# Altium schematic symbol library dungvh03-CERN_Logic.SchLib: 486 symbols (part 19 of 54)
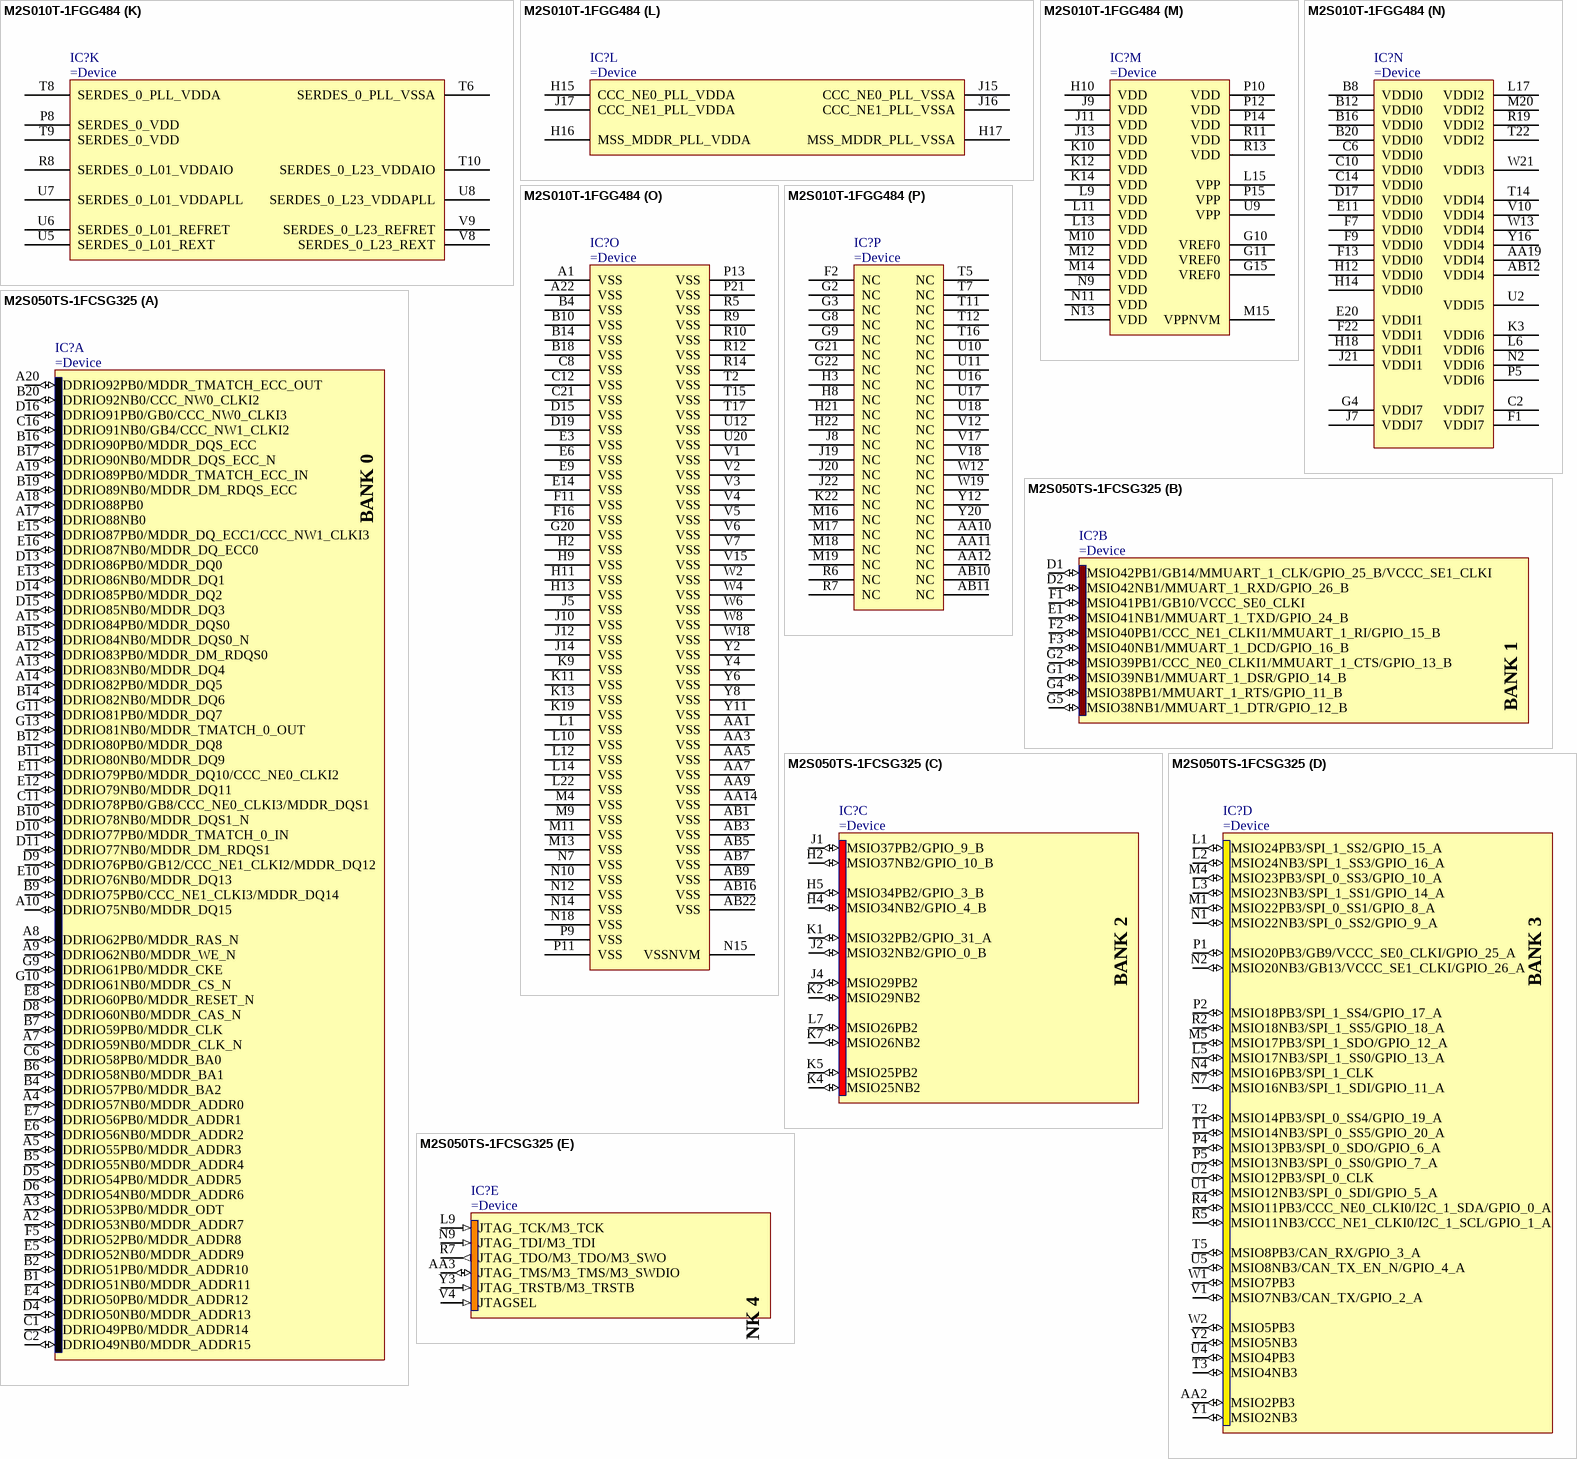
[diagram p279: symbols M2S010T-1FGG484 to M2S050TS-1FCSG325]

## M2S010T-1FGG484 (continued)
part P pins: AA10 NC "No connect. This pin is not connected to circuitry within the device. This pin can be driven to any voltage or can be left floating with no effect on the operation of the device.", AA11 NC "No connect. This pin is not connected to circuitry within the device. This pin can be driven to any voltage or can be left floating with no effect on the operation of the device.", AA12 NC "No connect. This pin is not connected to circuitry within the device. This pin can be driven to any voltage or can be left floating with no effect on the operation of the device.", AB10 NC "No connect. This pin is not connected to circuitry within the device. This pin can be driven to any voltage or can be left floating with no effect on the operation of the device.", AB11 NC "No connect. This pin is not connected to circuitry within the device. This pin can be driven to any voltage or can be left floating with no effect on the operation of the device.", F2 NC "No connect. This pin is not connected to circuitry within the device. This pin can be driven to any voltage or can be left floating with no effect on the operation of the device.", G2 NC "No connect. This pin is not connected to circuitry within the device. This pin can be driven to any voltage or can be left floating with no effect on the operation of the device.", G3 NC "No connect. This pin is not connected to circuitry within the device. This pin can be driven to any voltage or can be left floating with no effect on the operation of the device.", G8 NC "No connect. This pin is not connected to circuitry within the device. This pin can be driven to any voltage or can be left floating with no effect on the operation of the device.", G9 NC "No connect. This pin is not connected to circuitry within the device. This pin can be driven to any voltage or can be left floating with no effect on the operation of the device.", G21 NC "No connect. This pin is not connected to circuitry within the device. This pin can be driven to any voltage or can be left floating with no effect on the operation of the device.", G22 NC "No connect. This pin is not connected to circuitry within the device. This pin can be driven to any voltage or can be left floating with no effect on the operation of the device.", H3 NC "No connect. This pin is not connected to circuitry within the device. This pin can be driven to any voltage or can be left floating with no effect on the operation of the device.", H8 NC "No connect. This pin is not connected to circuitry within the device. This pin can be driven to any voltage or can be left floating with no effect on the operation of the device.", H21 NC "No connect. This pin is not connected to circuitry within the device. This pin can be driven to any voltage or can be left floating with no effect on the operation of the device.", H22 NC "No connect. This pin is not connected to circuitry within the device. This pin can be driven to any voltage or can be left floating with no effect on the operation of the device.", J8 NC "No connect. This pin is not connected to circuitry within the device. This pin can be driven to any voltage or can be left floating with no effect on the operation of the device.", J19 NC "No connect. This pin is not connected to circuitry within the device. This pin can be driven to any voltage or can be left floating with no effect on the operation of the device.", J20 NC "No connect. This pin is not connected to circuitry within the device. This pin can be driven to any voltage or can be left floating with no effect on the operation of the device.", J22 NC "No connect. This pin is not connected to circuitry within the device. This pin can be driven to any voltage or can be left floating with no effect on the operation of the device.", K22 NC "No connect. This pin is not connected to circuitry within the device. This pin can be driven to any voltage or can be left floating with no effect on the operation of the device.", M16 NC "No connect. This pin is not connected to circuitry within the device. This pin can be driven to any voltage or can be left floating with no effect on the operation of the device.", M17 NC "No connect. This pin is not connected to circuitry within the device. This pin can be driven to any voltage or can be left floating with no effect on the operation of the device.", M18 NC "No connect. This pin is not connected to circuitry within the device. This pin can be driven to any voltage or can be left floating with no effect on the operation of the device.", M19 NC "No connect. This pin is not connected to circuitry within the device. This pin can be driven to any voltage or can be left floating with no effect on the operation of the device.", R6 NC "No connect. This pin is not connected to circuitry within the device. This pin can be driven to any voltage or can be left floating with no effect on the operation of the device.", R7 NC "No connect. This pin is not connected to circuitry within the device. This pin can be driven to any voltage or can be left floating with no effect on the operation of the device.", T5 NC "No connect. This pin is not connected to circuitry within the device. This pin can be driven to any voltage or can be left floating with no effect on the operation of the device.", T7 NC "No connect. This pin is not connected to circuitry within the device. This pin can be driven to any voltage or can be left floating with no effect on the operation of the device.", T11 NC "No connect. This pin is not connected to circuitry within the device. This pin can be driven to any voltage or can be left floating with no effect on the operation of the device.", T12 NC "No connect. This pin is not connected to circuitry within the device. This pin can be driven to any voltage or can be left floating with no effect on the operation of the device.", T16 NC "No connect. This pin is not connected to circuitry within the device. This pin can be driven to any voltage or can be left floating with no effect on the operation of the device.", U10 NC "No connect. This pin is not connected to circuitry within the device. This pin can be driven to any voltage or can be left floating with no effect on the operation of the device.", U11 NC "No connect. This pin is not connected to circuitry within the device. This pin can be driven to any voltage or can be left floating with no effect on the operation of the device.", U16 NC "No connect. This pin is not connected to circuitry within the device. This pin can be driven to any voltage or can be left floating with no effect on the operation of the device.", U17 NC "No connect. This pin is not connected to circuitry within the device. This pin can be driven to any voltage or can be left floating with no effect on the operation of the device.", U18 NC "No connect. This pin is not connected to circuitry within the device. This pin can be driven to any voltage or can be left floating with no effect on the operation of the device.", V12 NC "No connect. This pin is not connected to circuitry within the device. This pin can be driven to any voltage or can be left floating with no effect on the operation of the device.", V17 NC "No connect. This pin is not connected to circuitry within the device. This pin can be driven to any voltage or can be left floating with no effect on the operation of the device.", V18 NC "No connect. This pin is not connected to circuitry within the device. This pin can be driven to any voltage or can be left floating with no effect on the operation of the device.", W12 NC "No connect. This pin is not connected to circuitry within the device. This pin can be driven to any voltage or can be left floating with no effect on the operation of the device.", W19 NC "No connect. This pin is not connected to circuitry within the device. This pin can be driven to any voltage or can be left floating with no effect on the operation of the device.", Y12 NC "No connect. This pin is not connected to circuitry within the device. This pin can be driven to any voltage or can be left floating with no effect on the operation of the device.", Y20 NC "No connect. This pin is not connected to circuitry within the device. This pin can be driven to any voltage or can be left floating with no effect on the operation of the device."
part A text: BANK 0
part B text: BANK 1
part C text: BANK 2
part D text: BANK 4
part E text: BANK 5
part F text: BANK 6
part G text: BANK 7

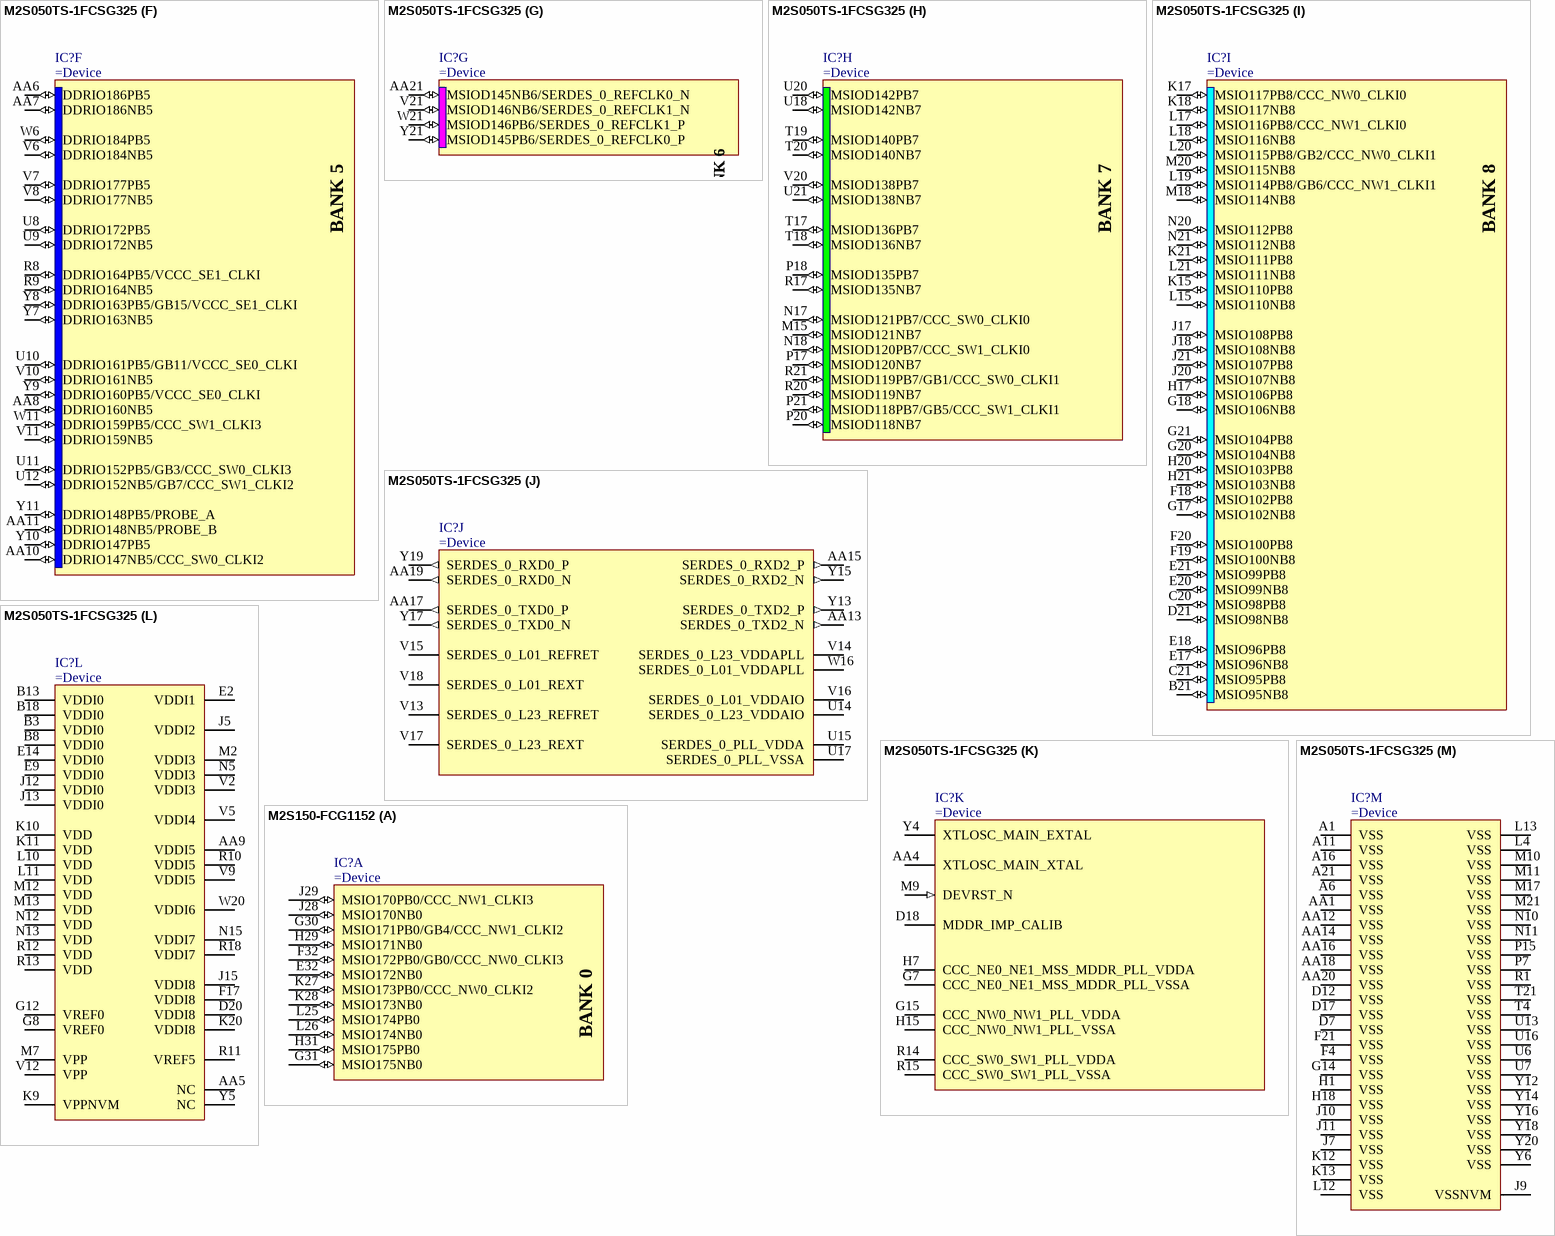
[diagram p91: symbols M2S050TS-1FCSG325 to M2S150-FCG1152]

## M2S050TS-1FCSG325
designator IC?
SmartFusion 2 SoC FPGA, ARM Cortex-M3, 200 User I/O, -40 to 85 degC, 325-Ball BGA, RoHS
part A pins: A2 DDRIO53NB0/MDDR_ADDR7 (io), A3 DDRIO53PB0/MDDR_ODT (io), A4 DDRIO57NB0/MDDR_ADDR0 (io), A5 DDRIO55PB0/MDDR_ADDR3 (io), A7 DDRIO59NB0/MDDR_CLK_N (io), A8 DDRIO62PB0/MDDR_RAS_N (io), A9 DDRIO62NB0/MDDR_WE_N (io), A10 DDRIO75NB0/MDDR_DQ15 (io), A12 DDRIO83PB0/MDDR_DM_RDQS0 (io), A13 DDRIO83NB0/MDDR_DQ4 (io), A14 DDRIO82PB0/MDDR_DQ5 (io), A15 DDRIO84PB0/MDDR_DQS0 (io), A17 DDRIO88NB0 (io), A18 DDRIO88PB0 (io), A19 DDRIO89PB0/MDDR_TMATCH_ECC_IN (io), A20 DDRIO92PB0/MDDR_TMATCH_ECC_OUT (io), B1 DDRIO51NB0/MDDR_ADDR11 (io), B2 DDRIO51PB0/MDDR_ADDR10 (io), B4 DDRIO57PB0/MDDR_BA2 (io), B5 DDRIO55NB0/MDDR_ADDR4 (io), B6 DDRIO58NB0/MDDR_BA1 (io), B7 DDRIO59PB0/MDDR_CLK (io), B9 DDRIO75PB0/CCC_NE1_CLKI3/MDDR_DQ14 (io), B10 DDRIO78NB0/MDDR_DQS1_N (io), B11 DDRIO80NB0/MDDR_DQ9 (io), B12 DDRIO80PB0/MDDR_DQ8 (io), B14 DDRIO82NB0/MDDR_DQ6 (io), B15 DDRIO84NB0/MDDR_DQS0_N (io), B16 DDRIO90PB0/MDDR_DQS_ECC (io), B17 DDRIO90NB0/MDDR_DQS_ECC_N (io), B19 DDRIO89NB0/MDDR_DM_RDQS_ECC (io), B20 DDRIO92NB0/CCC_NW0_CLKI2 (io), C1 DDRIO49PB0/MDDR_ADDR14 (io), C2 DDRIO49NB0/MDDR_ADDR15 (io), C6 DDRIO58PB0/MDDR_BA0 (io), C11 DDRIO78PB0/GB8/CCC_NE0_CLKI3/MDDR_DQS1 (io), C16 DDRIO91NB0/GB4/CCC_NW1_CLKI2 (io), D4 DDRIO50NB0/MDDR_ADDR13 (io), D5 DDRIO54PB0/MDDR_ADDR5 (io), D6 DDRIO54NB0/MDDR_ADDR6 (io), D8 DDRIO60NB0/MDDR_CAS_N (io), D9 DDRIO76PB0/GB12/CCC_NE1_CLKI2/MDDR_DQ12 (io), D10 DDRIO77PB0/MDDR_TMATCH_0_IN (io), D11 DDRIO77NB0/MDDR_DM_RDQS1 (io), D13 DDRIO86PB0/MDDR_DQ0 (io), D14 DDRIO85PB0/MDDR_DQ2 (io), D15 DDRIO85NB0/MDDR_DQ3 (io), D16 DDRIO91PB0/GB0/CCC_NW0_CLKI3 (io), E4 DDRIO50PB0/MDDR_ADDR12 (io), E5 DDRIO52NB0/MDDR_ADDR9 (io), E6 DDRIO56NB0/MDDR_ADDR2 (io), E7 DDRIO56PB0/MDDR_ADDR1 (io), E8 DDRIO60PB0/MDDR_RESET_N (io), E10 DDRIO76NB0/MDDR_DQ13 (io), E11 DDRIO79PB0/MDDR_DQ10/CCC_NE0_CLKI2 (io), E12 DDRIO79NB0/MDDR_DQ11 (io), E13 DDRIO86NB0/MDDR_DQ1 (io), E15 DDRIO87PB0/MDDR_DQ_ECC1/CCC_NW1_CLKI3 (io), E16 DDRIO87NB0/MDDR_DQ_ECC0 (io), F5 DDRIO52PB0/MDDR_ADDR8 (io), G9 DDRIO61PB0/MDDR_CKE (io), G10 DDRIO61NB0/MDDR_CS_N (io), G11 DDRIO81PB0/MDDR_DQ7 (io), G13 DDRIO81NB0/MDDR_TMATCH_0_OUT (io)
part B pins: D1 MSIO42PB1/GB14/MMUART_1_CLK/GPIO_25_B/VCCC_SE1_CLKI (io), D2 MSIO42NB1/MMUART_1_RXD/GPIO_26_B (io), E1 MSIO41NB1/MMUART_1_TXD/GPIO_24_B (io), F1 MSIO41PB1/GB10/VCCC_SE0_CLKI (io), F2 MSIO40PB1/CCC_NE1_CLKI1/MMUART_1_RI/GPIO_15_B (io), F3 MSIO40NB1/MMUART_1_DCD/GPIO_16_B (io), G1 MSIO39NB1/MMUART_1_DSR/GPIO_14_B (io), G2 MSIO39PB1/CCC_NE0_CLKI1/MMUART_1_CTS/GPIO_13_B (io), G4 MSIO38PB1/MMUART_1_RTS/GPIO_11_B (io), G5 MSIO38NB1/MMUART_1_DTR/GPIO_12_B (io)
part C pins: H2 MSIO37NB2/GPIO_10_B (io), H4 MSIO34NB2/GPIO_4_B (io), H5 MSIO34PB2/GPIO_3_B (io), J1 MSIO37PB2/GPIO_9_B (io), J2 MSIO32NB2/GPIO_0_B (io), J4 MSIO29PB2 (io), K1 MSIO32PB2/GPIO_31_A (io), K2 MSIO29NB2 (io), K4 MSIO25NB2 (io), K5 MSIO25PB2 (io), K7 MSIO26NB2 (io), L7 MSIO26PB2 (io)
part D pins: AA2 MSIO2PB3 (io), L1 MSIO24PB3/SPI_1_SS2/GPIO_15_A (io), L2 MSIO24NB3/SPI_1_SS3/GPIO_16_A (io), L3 MSIO23NB3/SPI_1_SS1/GPIO_14_A (io), L5 MSIO17NB3/SPI_1_SS0/GPIO_13_A (io), M1 MSIO22PB3/SPI_0_SS1/GPIO_8_A (io), M4 MSIO23PB3/SPI_0_SS3/GPIO_10_A (io), M5 MSIO17PB3/SPI_1_SDO/GPIO_12_A (io), N1 MSIO22NB3/SPI_0_SS2/GPIO_9_A (io), N2 MSIO20NB3/GB13/VCCC_SE1_CLKI/GPIO_26_A (io), N4 MSIO16PB3/SPI_1_CLK (io), N7 MSIO16NB3/SPI_1_SDI/GPIO_11_A (io), P1 MSIO20PB3/GB9/VCCC_SE0_CLKI/GPIO_25_A (io), P2 MSIO18PB3/SPI_1_SS4/GPIO_17_A (io), P4 MSIO13PB3/SPI_0_SDO/GPIO_6_A (io), P5 MSIO13NB3/SPI_0_SS0/GPIO_7_A (io), R2 MSIO18NB3/SPI_1_SS5/GPIO_18_A (io), R4 MSIO11PB3/CCC_NE0_CLKI0/I2C_1_SDA/GPIO_0_A (io), R5 MSIO11NB3/CCC_NE1_CLKI0/I2C_1_SCL/GPIO_1_A (io), T1 MSIO14NB3/SPI_0_SS5/GPIO_20_A (io), T2 MSIO14PB3/SPI_0_SS4/GPIO_19_A (io), T3 MSIO4NB3 (io), T5 MSIO8PB3/CAN_RX/GPIO_3_A (io), U1 MSIO12NB3/SPI_0_SDI/GPIO_5_A (io), U2 MSIO12PB3/SPI_0_CLK (io), U4 MSIO4PB3 (io), U5 MSIO8NB3/CAN_TX_EN_N/GPIO_4_A (io), V1 MSIO7NB3/CAN_TX/GPIO_2_A (io), W1 MSIO7PB3 (io), W2 MSIO5PB3 (io), Y1 MSIO2NB3 (io), Y2 MSIO5NB3 (io)
part E pins: AA3 JTAG_TMS/M3_TMS/M3_SWDIO (io), L9 JTAG_TCK/M3_TCK (in), N9 JTAG_TDI/M3_TDI (in), R7 JTAG_TDO/M3_TDO/M3_SWO (out), V4 JTAGSEL (in), Y3 JTAG_TRSTB/M3_TRSTB (in)
part F pins: AA6 DDRIO186PB5 (io), AA7 DDRIO186NB5 (io), AA8 DDRIO160NB5 (io), AA10 DDRIO147NB5/CCC_SW0_CLKI2 (io), AA11 DDRIO148NB5/PROBE_B (io), R8 DDRIO164PB5/VCCC_SE1_CLKI (io), R9 DDRIO164NB5 (io), U8 DDRIO172PB5 (io), U9 DDRIO172NB5 (io), U10 DDRIO161PB5/GB11/VCCC_SE0_CLKI (io), U11 DDRIO152PB5/GB3/CCC_SW0_CLKI3 (io), U12 DDRIO152NB5/GB7/CCC_SW1_CLKI2 (io), V6 DDRIO184NB5 (io), V7 DDRIO177PB5 (io), V8 DDRIO177NB5 (io), V10 DDRIO161NB5 (io), V11 DDRIO159NB5 (io), W6 DDRIO184PB5 (io), W11 DDRIO159PB5/CCC_SW1_CLKI3 (io), Y7 DDRIO163NB5 (io), Y8 DDRIO163PB5/GB15/VCCC_SE1_CLKI (io), Y9 DDRIO160PB5/VCCC_SE0_CLKI (io), Y10 DDRIO147PB5 (io), Y11 DDRIO148PB5/PROBE_A (io)
part G pins: AA21 MSIOD145NB6/SERDES_0_REFCLK0_N (io), V21 MSIOD146NB6/SERDES_0_REFCLK1_N (io), W21 MSIOD146PB6/SERDES_0_REFCLK1_P (io), Y21 MSIOD145PB6/SERDES_0_REFCLK0_P (io)
part H pins: M15 MSIOD121NB7 (io), N17 MSIOD121PB7/CCC_SW0_CLKI0 (io), N18 MSIOD120PB7/CCC_SW1_CLKI0 (io), P17 MSIOD120NB7 (io), P18 MSIOD135PB7 (io), P20 MSIOD118NB7 (io), P21 MSIOD118PB7/GB5/CCC_SW1_CLKI1 (io), R17 MSIOD135NB7 (io), R20 MSIOD119NB7 (io), R21 MSIOD119PB7/GB1/CCC_SW0_CLKI1 (io), T17 MSIOD136PB7 (io), T18 MSIOD136NB7 (io), T19 MSIOD140PB7 (io), T20 MSIOD140NB7 (io), U18 MSIOD142NB7 (io), U20 MSIOD142PB7 (io), U21 MSIOD138NB7 (io), V20 MSIOD138PB7 (io)
part I pins: B21 MSIO95NB8 (io), C20 MSIO98PB8 (io), C21 MSIO95PB8 (io), D21 MSIO98NB8 (io), E17 MSIO96NB8 (io), E18 MSIO96PB8 (io), E20 MSIO99NB8 (io), E21 MSIO99PB8 (io), F18 MSIO102PB8 (io), F19 MSIO100NB8 (io), F20 MSIO100PB8 (io), G17 MSIO102NB8 (io), G18 MSIO106NB8 (io), G20 MSIO104NB8 (io), G21 MSIO104PB8 (io), H17 MSIO106PB8 (io), H20 MSIO103PB8 (io), H21 MSIO103NB8 (io), J17 MSIO108PB8 (io), J18 MSIO108NB8 (io), J20 MSIO107NB8 (io), J21 MSIO107PB8 (io), K15 MSIO110PB8 (io), K17 MSIO117PB8/CCC_NW0_CLKI0 (io), K18 MSIO117NB8 (io), K21 MSIO111PB8 (io), L15 MSIO110NB8 (io), L17 MSIO116PB8/CCC_NW1_CLKI0 (io), L18 MSIO116NB8 (io), L19 MSIO114PB8/GB6/CCC_NW1_CLKI1 (io), L20 MSIO115PB8/GB2/CCC_NW0_CLKI1 (io), L21 MSIO111NB8 (io), M18 MSIO114NB8 (io), M20 MSIO115NB8 (io), N20 MSIO112PB8 (io), N21 MSIO112NB8 (io)
part J pins: AA13 SERDES_0_TXD2_N (out), AA15 SERDES_0_RXD2_P (out), AA17 SERDES_0_TXD0_P (out), AA19 SERDES_0_RXD0_N (out), U14 SERDES_0_L23_VDDAIO (power), U15 SERDES_0_PLL_VDDA (power), U17 SERDES_0_PLL_VSSA (power), V13 SERDES_0_L23_REFRET, V14 SERDES_0_L23_VDDAPLL (power), V15 SERDES_0_L01_REFRET, V16 SERDES_0_L01_VDDAIO (power), V17 SERDES_0_L23_REXT, V18 SERDES_0_L01_REXT, W16 SERDES_0_L01_VDDAPLL (power), Y13 SERDES_0_TXD2_P (out), Y15 SERDES_0_RXD2_N (out), Y17 SERDES_0_TXD0_N (out), Y19 SERDES_0_RXD0_P (out)
part K pins: AA4 XTLOSC_MAIN_XTAL, D18 MDDR_IMP_CALIB, G7 CCC_NE0_NE1_MSS_MDDR_PLL_VSSA (power), G15 CCC_NW0_NW1_PLL_VDDA (power), H7 CCC_NE0_NE1_MSS_MDDR_PLL_VDDA (power), H15 CCC_NW0_NW1_PLL_VSSA (power), M9 DEVRST_N (in), R14 CCC_SW0_SW1_PLL_VDDA (power), R15 CCC_SW0_SW1_PLL_VSSA (power), Y4 XTLOSC_MAIN_EXTAL
part L pins: AA5 NC, AA9 VDDI5 (power), B3 VDDI0 (power), B8 VDDI0 (power), B13 VDDI0 (power), B18 VDDI0 (power), D20 VDDI8 (power), E2 VDDI1 (power), E9 VDDI0 (power), E14 VDDI0 (power), F17 VDDI8 (power), G8 VREF0 (power), G12 VREF0 (power), J5 VDDI2 (power), J12 VDDI0 (power), J13 VDDI0 (power), J15 VDDI8 (power), K9 VPPNVM (power), K10 VDD (power), K11 VDD (power), K20 VDDI8 (power), L10 VDD (power), L11 VDD (power), M2 VDDI3 (power), M7 VPP (power), M12 VDD (power), M13 VDD (power), N5 VDDI3 (power), N12 VDD (power), N13 VDD (power), N15 VDDI7 (power), R10 VDDI5 (power), R11 VREF5 (power), R12 VDD (power), R13 VDD (power), R18 VDDI7 (power), V2 VDDI3 (power), V5 VDDI4 (power), V9 VDDI5 (power), V12 VPP (power), W20 VDDI6 (power), Y5 NC
part M pins: A1 VSS (power), A6 VSS (power), A11 VSS (power), A16 VSS (power), A21 VSS (power), AA1 VSS (power), AA12 VSS (power), AA14 VSS (power), AA16 VSS (power), AA18 VSS (power), AA20 VSS (power), D7 VSS (power), D12 VSS (power), D17 VSS (power), F4 VSS (power), F21 VSS (power), G14 VSS (power), H1 VSS (power), H18 VSS (power), J7 VSS (power), J9 VSSNVM (power), J10 VSS (power), J11 VSS (power), K12 VSS (power), K13 VSS (power), L4 VSS (power), L12 VSS (power), L13 VSS (power), M10 VSS (power), M11 VSS (power), M17 VSS (power), M21 VSS (power), N10 VSS (power), N11 VSS (power), P7 VSS (power), P15 VSS (power), R1 VSS (power), T4 VSS (power), T21 VSS (power), U6 VSS (power), U7 VSS (power), U13 VSS (power), U16 VSS (power), Y6 VSS (power), Y12 VSS (power), Y14 VSS (power), Y16 VSS (power), Y18 VSS (power), Y20 VSS (power)
part A text: BANK 0
part B text: BANK 1
part C text: BANK 2
part D text: BANK 3
part E text: BANK 4
part F text: BANK 5
part G text: BANK 6
part H text: BANK 7
part I text: BANK 8

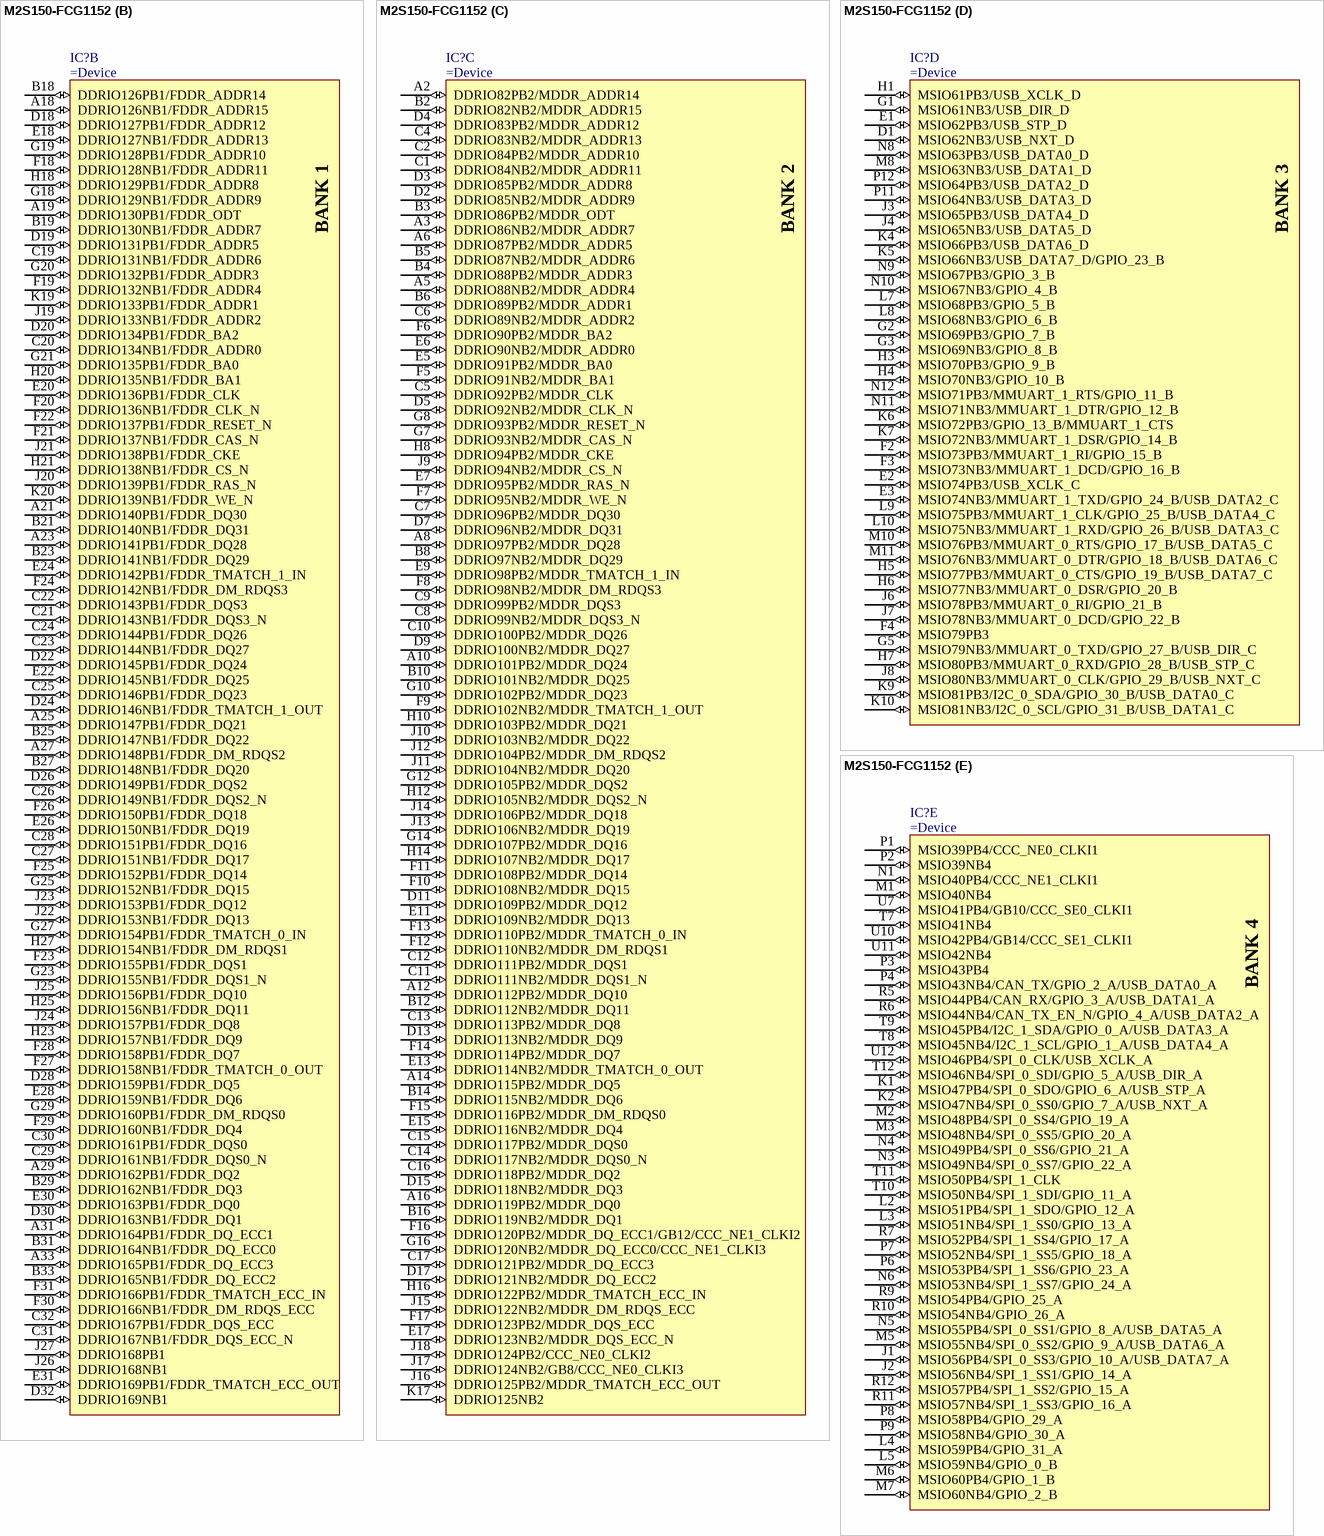
[diagram p92: symbol M2S150-FCG1152]

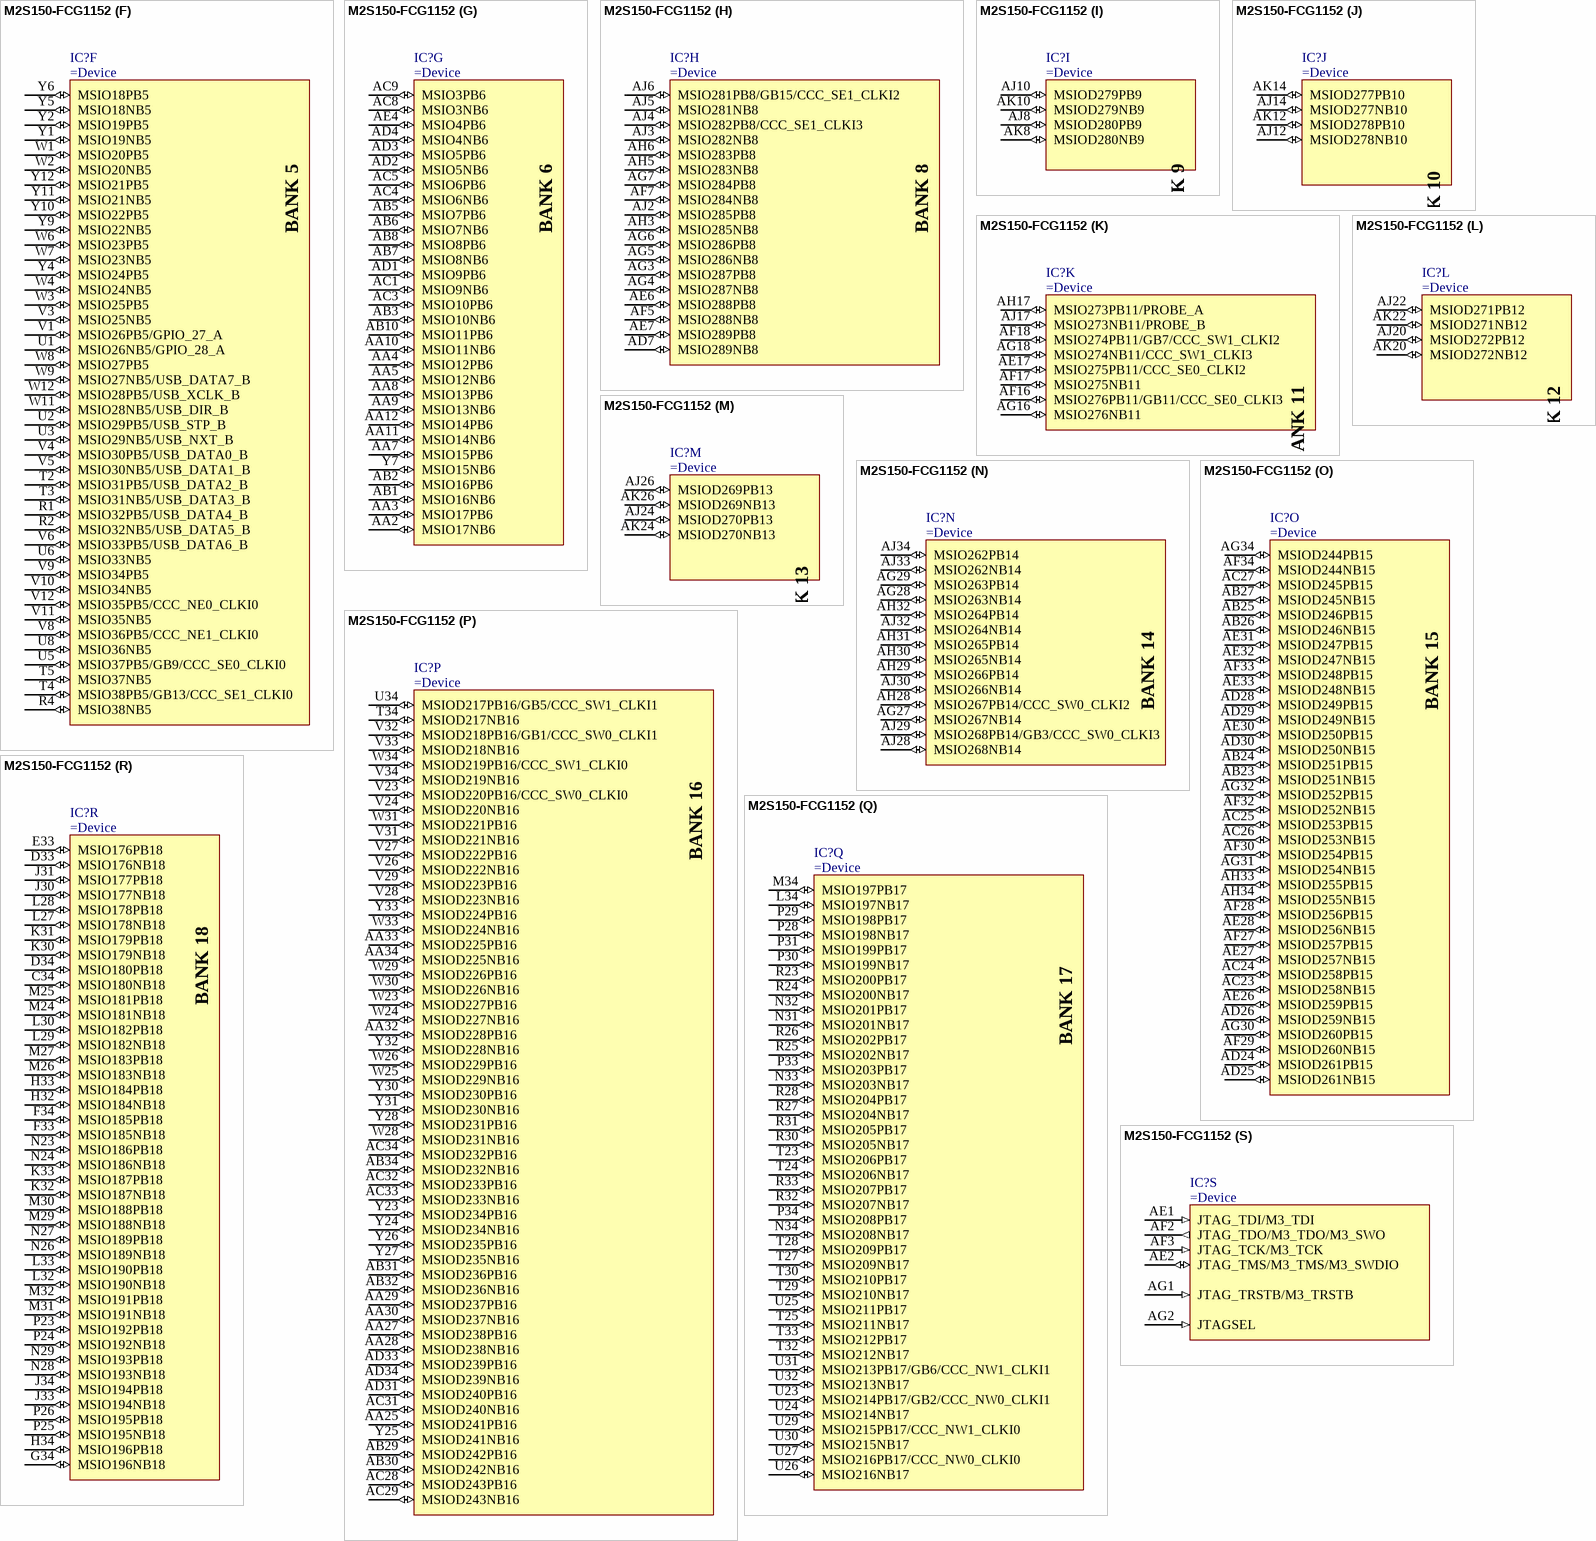
[diagram p93: symbol M2S150-FCG1152]

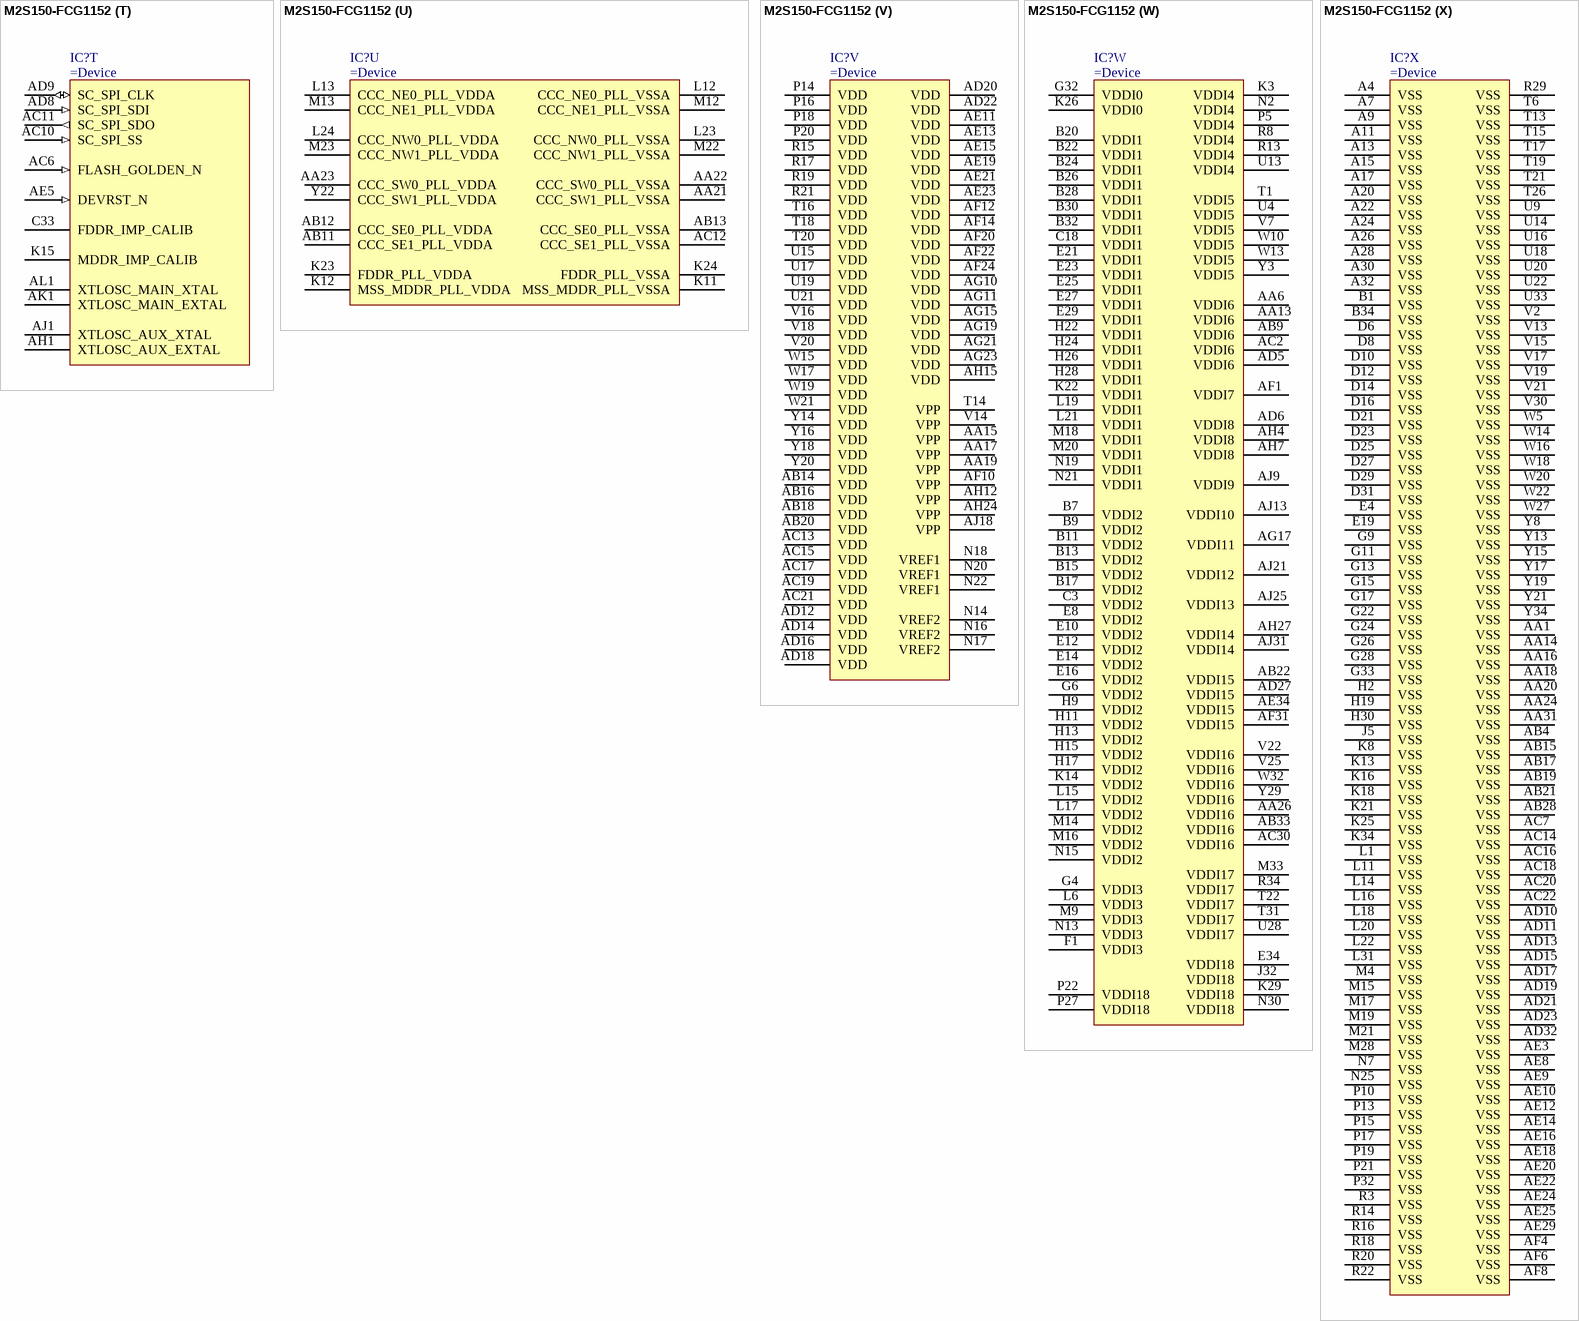
[diagram p94: symbol M2S150-FCG1152]

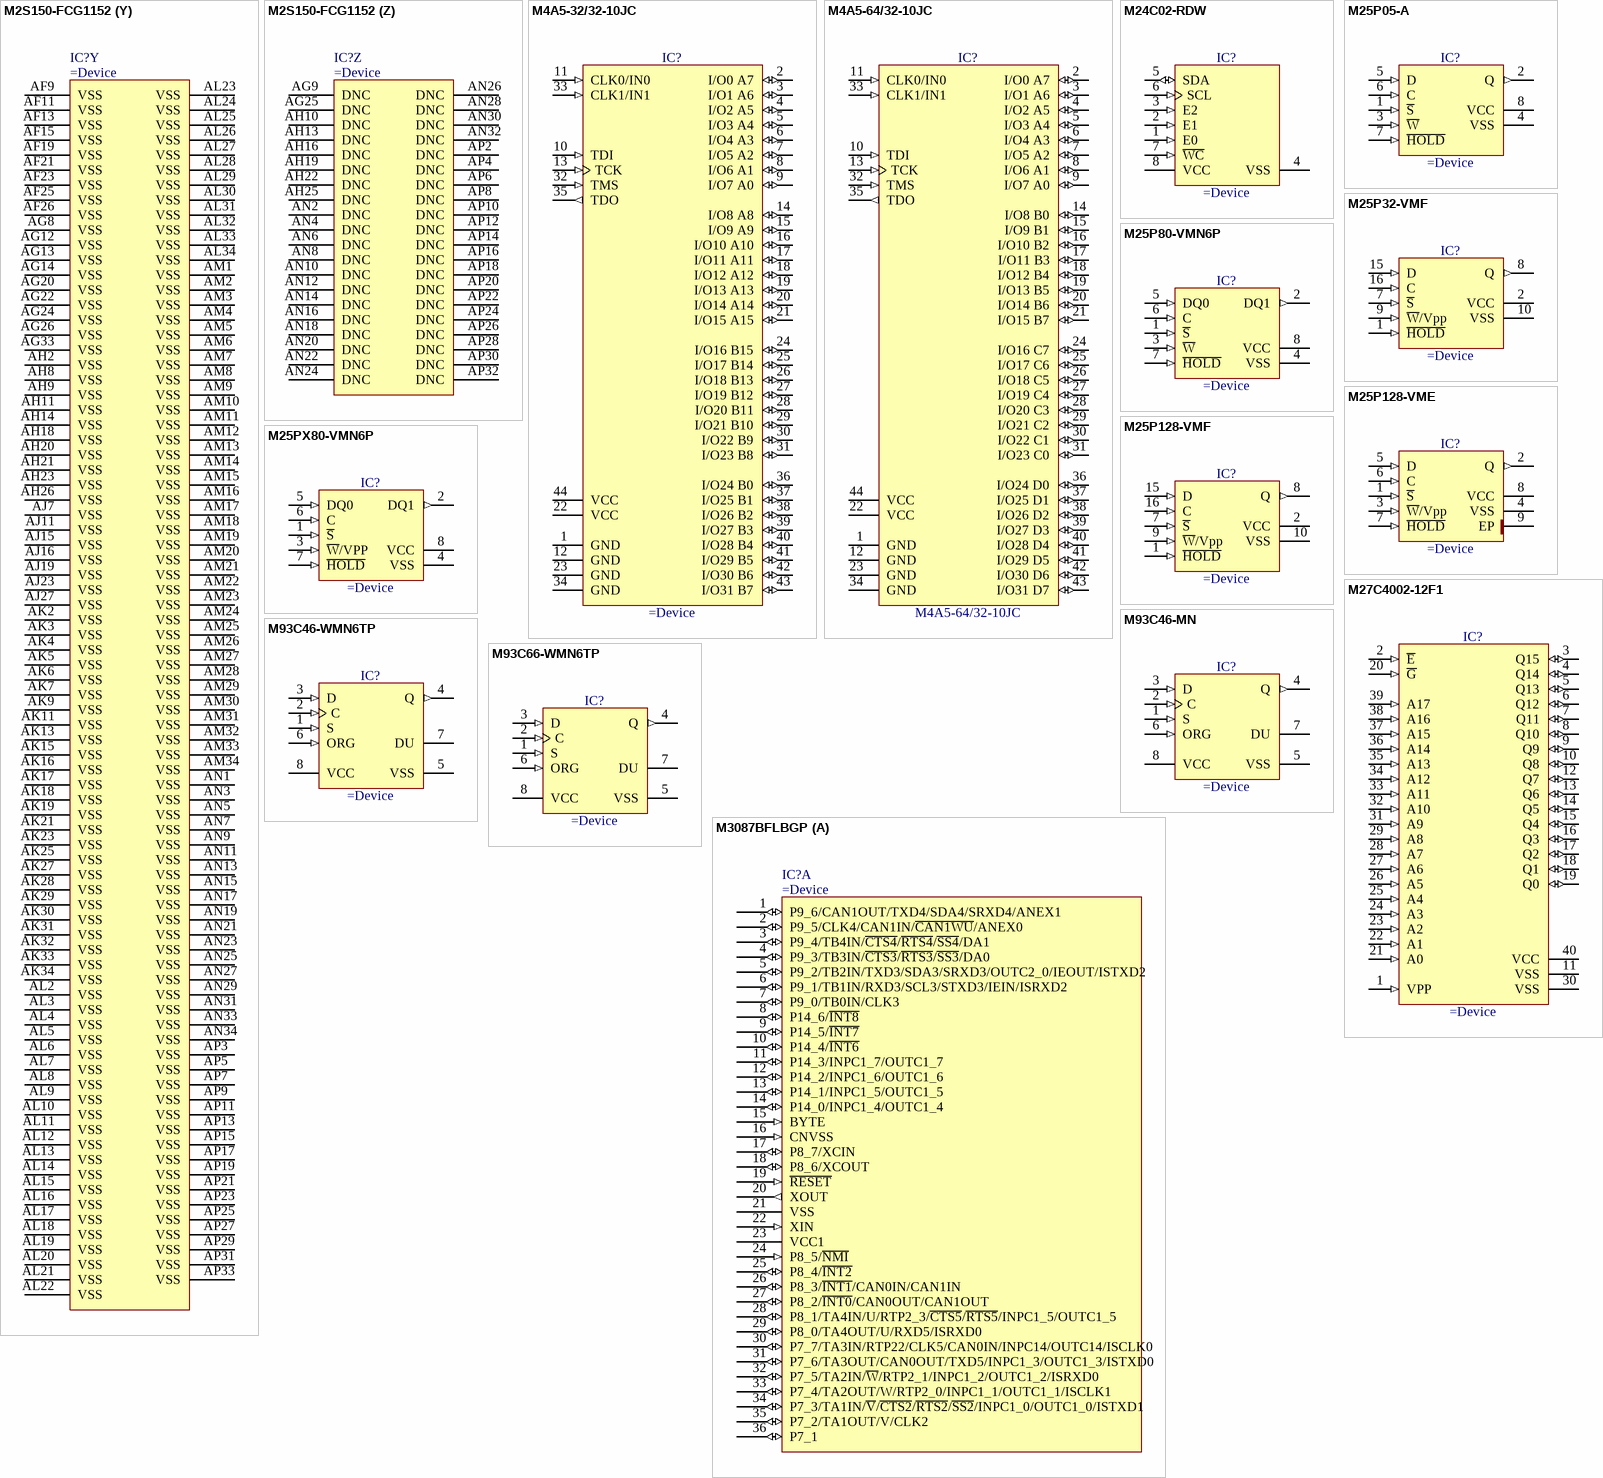
[diagram p95: symbols M2S150-FCG1152 to M3087BFLBGP]